# Altium schematic symbol library Fuse 2A.SchLib: 1 symbol
Pins are listed as number, name and electrical type; pins without a type are passive.

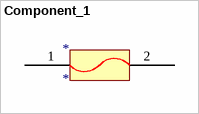
[diagram p0: symbol Component_1]

## Component_1
designator *
footprint Fuse 2A - duplicate
pins: 1, 2